# EAGLE library part ICE40LP384 (library ic-pld)
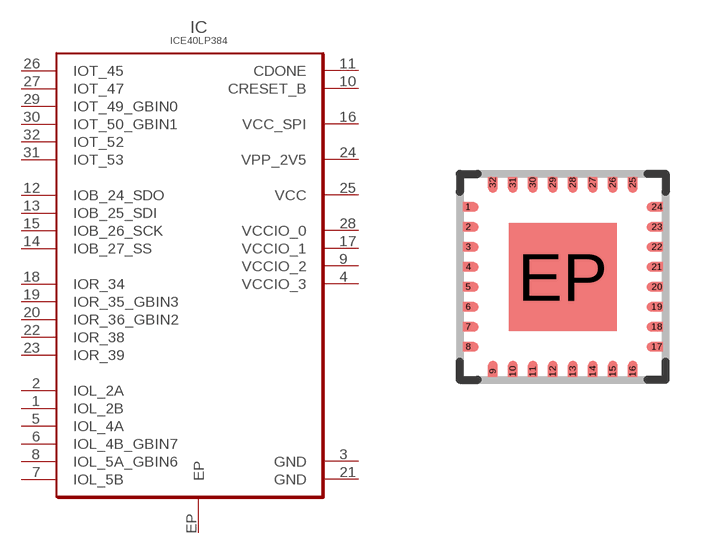
[diagram p0: symbol with the pads of SG32; footprint SG32]

Designator prefix IC

## ICE40LP384SG32  [SG32]
1  IOL_2B
2  IOL_2A
3  GND  pas
4  VCCIO_3
5  IOL_4A
6  IOL_4B_GBIN7
7  IOL_5B
8  IOL_5A_GBIN6
9  VCCIO_2
10  CRESET_B
11  CDONE
12  IOB_24_SDO
13  IOB_25_SDI
14  IOB_27_SS
15  IOB_26_SCK
16  VCC_SPI  pas
17  VCCIO_1
18  IOR_34
19  IOR_35_GBIN3
20  IOR_36_GBIN2
21  GND  pas
22  IOR_38
23  IOR_39
24  VPP_2V5  pas
25  VCC  pas
26  IOT_45
27  IOT_47
28  VCCIO_0
29  IOT_49_GBIN0
30  IOT_50_GBIN1
31  IOT_53
32  IOT_52
EP  EP  pas

## Footprint SG32 (pad centres in mm)
smd 0.28 x 0.24: 1 -2.36,1.75; 2 -2.36,1.25; 3 -2.36,0.75; 4 -2.36,0.25; 5 -2.36,-0.25; 6 -2.36,-0.75; 7 -2.36,-1.25; 8 -2.36,-1.75; 17 2.36,-1.75; 18 2.36,-1.25; 19 2.36,-0.75; 20 2.36,-0.25; 21 2.36,0.25; 22 2.36,0.75; 23 2.36,1.25; 24 2.36,1.75
smd 0.24 x 0.28: 9 -1.75,-2.36; 10 -1.25,-2.36; 11 -0.75,-2.36; 12 -0.25,-2.36; 13 0.25,-2.36; 14 0.75,-2.36; 15 1.25,-2.36; 16 1.75,-2.36; 25 1.75,2.36; 26 1.25,2.36; 27 0.75,2.36; 28 0.25,2.36; 29 -0.25,2.36; 30 -0.75,2.36; 31 -1.25,2.36; 32 -1.75,2.36
smd 2.7 x 2.7: EP 0,0